# Altium schematic symbol library AltiumDesigner.SchLib: 2 symbols
Pins are listed as number, name and electrical type; pins without a type are passive.

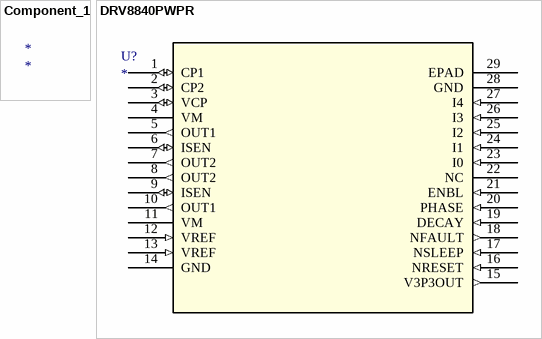
[diagram p0: symbols Component_1 to DRV8840PWPR]

## Component_1
designator *

## DRV8840PWPR
designator U?
Imported; Manufacturer: Texas Instruments; Manufacturer_Part_Number: DRV8840PWPR; Built_By: EMA_UL_Team; C: Copyright (C) 2015 Accelerated Designs. All rights reserved; Vendor: Texas Instruments; RefDes: RefDes; Type: DEV; Value: Value
footprint PWP28_5P18X3P1
pins: 1 CP1 (io), 2 CP2 (io), 3 VCP (io), 4 VM (power), 5 OUT1 (out), 6 ISEN (io), 7 OUT2 (out), 8 OUT2 (out), 9 ISEN (io), 10 OUT1 (out), 11 VM (power), 12 VREF (in), 13 VREF (in), 14 GND (power), 15 V3P3OUT (out), 16 NRESET (in), 17 NSLEEP (in), 18 NFAULT (out), 19 DECAY (in), 20 PHASE (in), 21 ENBL (in), 22 NC, 23 I0 (in), 24 I1 (in), 25 I2 (in), 26 I3 (in), 27 I4 (in), 28 GND (power), 29 EPAD